# Altium integrated library ABLS-8.000MHZ-B2-T.IntLib: 1 symbol
Pins are listed as number, name and electrical type; pins without a type are passive.

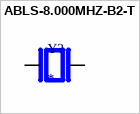
[diagram p0: symbol ABLS-8.000MHZ-B2-T]

## ABLS-8.000MHZ-B2-T
designator Y?
HC/49US (AT49) SMD LOW PROFILE CRYSTAL; MP: ABLS-8.000MHZ-B2-T; MF: Abracon LLC; Availability: In Stock; Purchase-URL: https://pricing.snapeda.com/search/part/ABLS-8.000MHZ-B2-T/?ref=eda; Package: HC49/US Abracon; Value: *; Check_prices: https://www.snapeda.com/parts/ABLS-8.000MHZ-B2-T/Abracon+LLC/view-part/?ref=eda; SnapEDA_Link: https://www.snapeda.com/parts/ABLS-8.000MHZ-B2-T/Abracon+LLC/view-part/?ref=snap; Price: None
footprint XTAL_ABLS-8.000MHZ-B2-T
pins: 1, 2